# EAGLE library part 3-5435640-6 (library Switches)
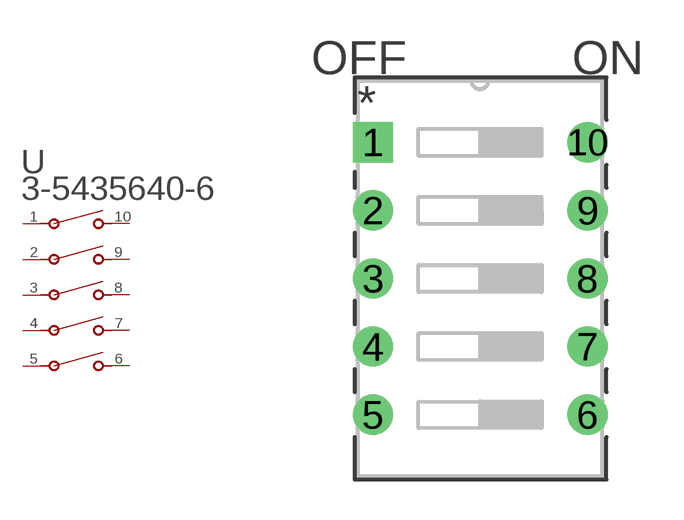
[diagram p30: symbol with the pads of SWDIP10_315X360P100; footprint SWDIP10_315X360P100]

Designator prefix U

## 3-5435640-6 (BUILT_BY: EMA_UL_Team; CATEGORY: DIP & SIP Switches; COPYRIGHT: Copyright (C) 2016 Accelerated Designs. All rights reserved; DESCRIPTION: DIP SW 5 POSN SEALED; MANUFACTURER_PART_NUMBER: 3-5435640-6; PART_STATUS: active; SERIES: Alcoswitch 7100; VENDOR: TE Connectivity)  [SWDIP10_315X360P100]
1  1  pas
2  2  pas
3  3  pas
4  4  pas
5  5  pas
6  6  pas
7  7  pas
8  8  pas
9  9  pas
10  10  pas

## Footprint SWDIP10_315X360P100 (pad centres in mm)
drill 0.991 pad 1.499 square: 1 -8.001,10.16
drill 0.991 pad 1.499: 2 -8.001,7.62; 3 -8.001,5.08; 4 -8.001,2.54; 5 -8.001,0; 6 0,0; 7 0,2.54; 8 0,5.08; 9 0,7.62; 10 0,10.16